# Altium schematic symbol library card-edge.SchLib: 4 symbols
Pins are listed as number, name and electrical type; pins without a type are passive.

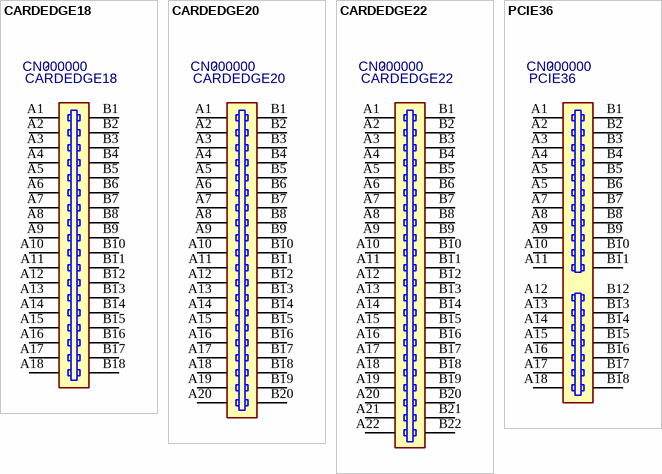
[diagram p0: symbols CARDEDGE18 to PCIE36]

## CARDEDGE18
designator CN?, comment 000000  value CARDEDGE18  (no BOM)
18pos, 2.54mm Card Edge Connector; PN: 000000; Package: PTH; ExtraInfo: *
footprint EDGE18
pins: A1, A2, A3, A4, A5, A6, A7, A8, A9, A10, A11, A12, A13, A14, A15, A16, A17, A18, B1, B2, B3, B4, B5, B6, B7, B8, B9, B10, B11, B12, B13, B14, B15, B16, B17, B18

## CARDEDGE20
designator CN?, comment 000000  value CARDEDGE20  (no BOM)
20pos, 2.54mm Card Edge Connector; PN: 000000; Package: PTH; ExtraInfo: *
footprint EDGE22 (Card Edge 22 Positions)
pins: A1, A2, A3, A4, A5, A6, A7, A8, A9, A10, A11, A12, A13, A14, A15, A16, A17, A18, A19, A20, B1, B2, B3, B4, B5, B6, B7, B8, B9, B10, B11, B12, B13, B14, B15, B16, B17, B18, B19, B20

## CARDEDGE22
designator CN?, comment 000000  value CARDEDGE22  (no BOM)
22pos, 2.54mm Card Edge Connector; PN: 000000; Package: PTH; ExtraInfo: *
footprint EDGE22 (Card Edge 22 Positions)
pins: A1, A2, A3, A4, A5, A6, A7, A8, A9, A10, A11, A12, A13, A14, A15, A16, A17, A18, A19, A20, A21, A22, B1, B2, B3, B4, B5, B6, B7, B8, B9, B10, B11, B12, B13, B14, B15, B16, B17, B18, B19, B20, B21, B22

## PCIE36
designator CN?, comment 000000  value PCIE36
18pos, 1.0mm PCI Express Card Edge Connector; PN: 000000; Package: PTH; ExtraInfo: *
footprint PCIE36
pins: A1, A2, A3, A4, A5 A6, A5, A7, A8, A9, A10, A11, A12, A13, A14, A15, A16, A17, A18, B1, B2, B3, B4, B5, B6, B7, B8, B9, B10, B11, B12, B13, B14, B15, B16, B17, B18